# Altium footprint library N-Analog.PCBLIB: 5 footprints
Each footprint in its own frame and in the unit in brackets; x right, y up, seen from the top. Pads: shape width x height; smd on the part's side, far side on the other; paste and mask are expansions set on the pad; w line width, h text height; cw(c..) or ccw(c..) is an arc to the next point about the centre after c.
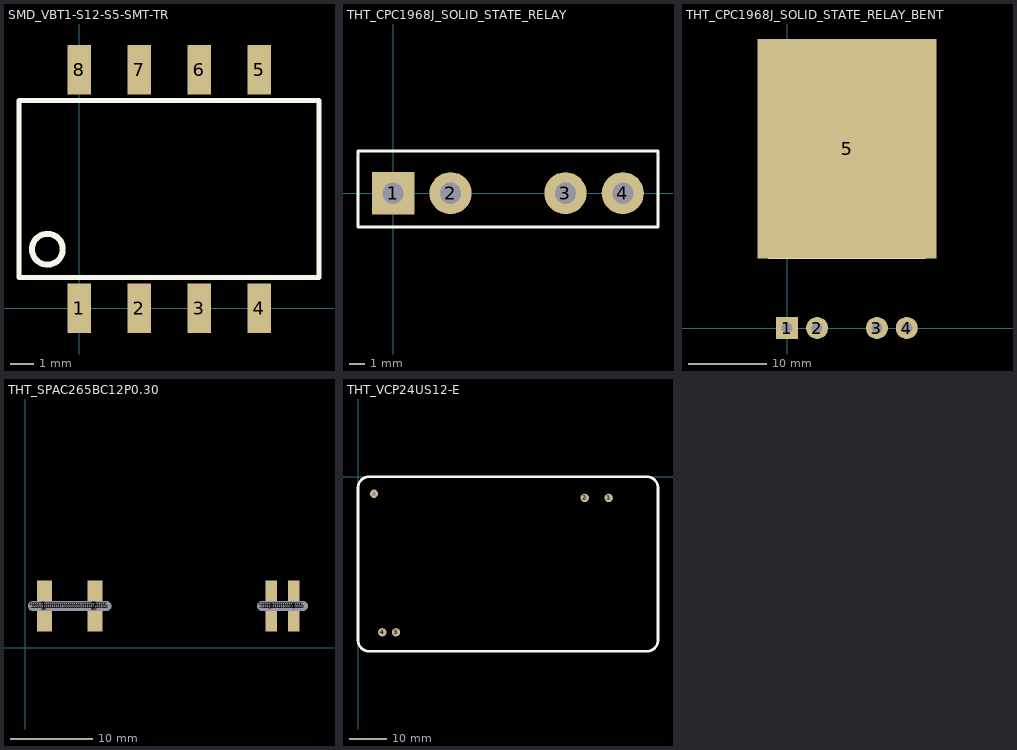
[diagram p0: the footprints below, top view; thin cyan lines are the x and y axes]

## SMD_VBT1-S12-S5-SMT-TR [mm] "SMD_VBT1-S12-S5-SMT-TR"
height 6
pads (8):
  rect 1x2.1 smd: 1(0,0) 2(2.54,0) 3(5.08,0) 4(7.62,0) 5(7.62,10.1) 6(5.08,10.1) 7(2.54,10.1) 8(0,10.1)
Top Overlay:
  circle w0.254: c-1.35,2.5 r0.652
  lines w0.2: -2.55,1.3 -2.55,8.8 10.15,8.8 10.15,1.3 -2.55,1.3

## THT_CPC1968J_SOLID_STATE_RELAY [mm] "THT_CPC1968J_SOLID_STATE_RELAY"
height 29
pads (4):
  rect 2.8x2.8 hole 1.4: 1(0,0)
  round 2.8 hole 1.4: 2(3.81,0) 3(11.43,0) 4(15.24,0)
Top Overlay:
  lines w0.2: -2.337,-2.235 17.577,-2.235 17.577,2.794 -2.337,2.794 -2.337,-2.235

## THT_CPC1968J_SOLID_STATE_RELAY_BENT [mm] "THT_CPC1968J_SOLID_STATE_RELAY_BENT"
height 5.029
pads (5):
  rect 2.8x2.8 hole 1.4: 1(0,0)
  round 2.8 hole 1.4: 2(3.81,0) 3(11.43,0) 4(15.24,0)
  rect 22.86x27.94 smd: 5(7.62,22.86)
Top Overlay:
  lines w0.2: -2.337,8.89 -2.337,34.29 17.577,34.29 17.577,8.89 -2.337,8.89

## THT_SPAC265BC12P0.30 [mm]
pads (62):
  rect 1.8x6.2 smd: 1(2.35,5.1) 2(8.5,5.1)
  rect 1.4x6.2 smd: 3(30,5.1) 4(32.7,5.1)
  round 1.2 on Keep-Out hole 1.2 unplated: 5(0.925,5.1) 5(1.175,5.1) 5(1.425,5.1) 5(1.675,5.1) 5(1.925,5.1) 5(2.175,5.1) 5(2.425,5.1) 5(2.675,5.1) 5(2.925,5.1) 5(3.175,5.1) 5(3.425,5.1) 5(3.675,5.1) 5(3.925,5.1) 5(4.175,5.1) 5(4.425,5.1) 5(4.675,5.1) 5(4.925,5.1) 5(5.175,5.1) 5(5.425,5.1) 5(5.675,5.1) 5(5.925,5.1) 5(6.175,5.1) 5(6.425,5.1) 5(6.675,5.1) 5(6.925,5.1) 5(7.175,5.1) 5(7.425,5.1) 5(7.675,5.1) 5(7.925,5.1) 5(8.175,5.1) 5(8.425,5.1) 5(8.675,5.1) 5(8.925,5.1) 5(9.175,5.1) 5(9.425,5.1) 5(9.675,5.1) 5(9.925,5.1) 5(28.85,5.1) 5(29.1,5.1) 5(29.35,5.1) 5(29.6,5.1) 5(29.85,5.1) 5(30.1,5.1) 5(30.35,5.1) 5(30.6,5.1) 5(30.85,5.1) 5(31.1,5.1) 5(31.35,5.1) 5(31.6,5.1) 5(31.85,5.1) 5(32.1,5.1) 5(32.35,5.1) 5(32.6,5.1) 5(32.85,5.1) 5(33.1,5.1) 5(33.35,5.1) 5(33.6,5.1) 5(33.85,5.1)
Bottom Overlay:
  lines w0.2: 0,0 34.8,0 34.8,20.4 0,20.4 0,0

## THT_VCP24US12-E [mm] "SMPS Footprint (VCP24US12-E)"
height 28.5
pads (4):
  round 2.2 hole 1.1: 1(66,-5.6) 2(59.7,-5.6) 3(10,-41) 4(6.4,-41)
via 4.2,-4.5 diameter 2.2 hole 1.1
Top Overlay:
  lines w0.7: 0,-43 ccw(c3,-43) 3,-46 76,-46 ccw(c76,-43) 79,-43 79,-3 ccw(c76,-3) 76,0 3,0 ccw(c3,-3) 0,-3 0,-43